# Altium schematic symbol library Passive_components.SchLib: 8 symbols
Pins are listed as number, name and electrical type; pins without a type are passive.

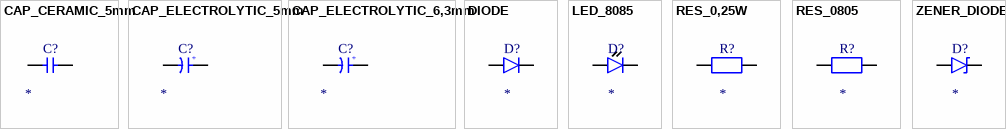
[diagram p0: symbols CAP_CERAMIC_5mm to ZENER_DIODE]

## CAP_CERAMIC_5mm
designator C?  (value not drawn)
Ceramic Capacitor THT terminal pitch 5mm; Voltage rating: *; Tolerance: *; Value: *
footprint CAP_CERAMIC_5mm
pins: 1, 2

## CAP_ELECTROLYTIC_5mm
designator C?  (value not drawn)
Electrolytic Capacitor THT terminal pitch 5mm; Voltage rating: *; Tolerance: *; Value: *
footprint CAP_ELECTROLYTIC_5mm
pins: 1, 2
text: +

## CAP_ELECTROLYTIC_6,3mm
designator C?  (value not drawn)
Electrolytic Capacitor THT terminal pitch 6,3mm; Voltage rating: *; Tolerance: *; Value: *
footprint CAP_ELECTROLYTIC_6,3mm
pins: 1, 2
text: +

## DIODE
designator D?, comment RECT_DIODE  (value not drawn)
THT rectifier diode; Max reverse voltage: *; Max current: *; Forward voltage: *; Model: *
footprint THT_DIODE
pins: 1, 2

## LED_8085
designator D?, comment LED_0805  (value not drawn)
SMD LED diode 0805; Max reverse voltage: *; Max current: *; Forward voltage: *; Model: *
footprint LED_0805
pins: 1, 2

## RES_0,25W
designator R?  (value not drawn)
Resistor THT 0,25W; Tolerance: *; Value: *
footprint RES_0,25W
pins: 1, 2

## RES_0805
designator R?  (value not drawn)
Resistor SMD 0805; Tolerance: *; Value: *
footprint RES_0805
pins: 1, 2

## ZENER_DIODE
designator D?, comment ZENER  (value not drawn)
THT Zener diode; Zener voltage: *; Power diss: *; Model: *
footprint THT_DIODE
pins: 1, 2